# EAGLE library part LM4890 (library Pygmy)
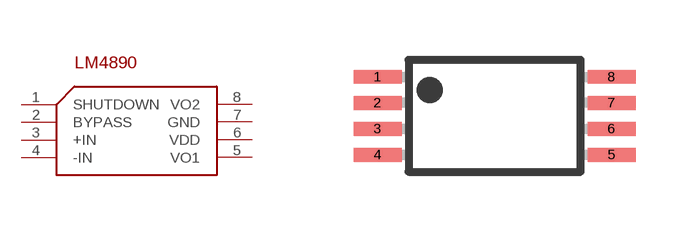
[diagram p65: symbol with the pads of TSSOP8; footprint TSSOP8]

Designator prefix -

## LM4890  [TSSOP8]
1  SHUTDOWN
2  BYPASS
3  +IN
4  -IN
5  VO1
6  VDD
7  GND
8  VO2

## Footprint TSSOP8 (pad centres in mm)
Plastic Small Outline
smd 1.2 x 0.35: 1 -2.925,0.975; 2 -2.925,0.325; 3 -2.925,-0.325; 4 -2.925,-0.975; 5 2.925,-0.975; 6 2.925,-0.325; 7 2.925,0.325; 8 2.925,0.975